# Altium footprint library Mach dieu khien tu xa.PcbLib: 33 footprints (part 1 of 3)
Each footprint in its own frame and in the unit in brackets; x right, y up, seen from the top. Pads: shape width x height; smd on the part's side, far side on the other; paste and mask are expansions set on the pad; w line width, h text height; cw(c..) or ccw(c..) is an arc to the next point about the centre after c.
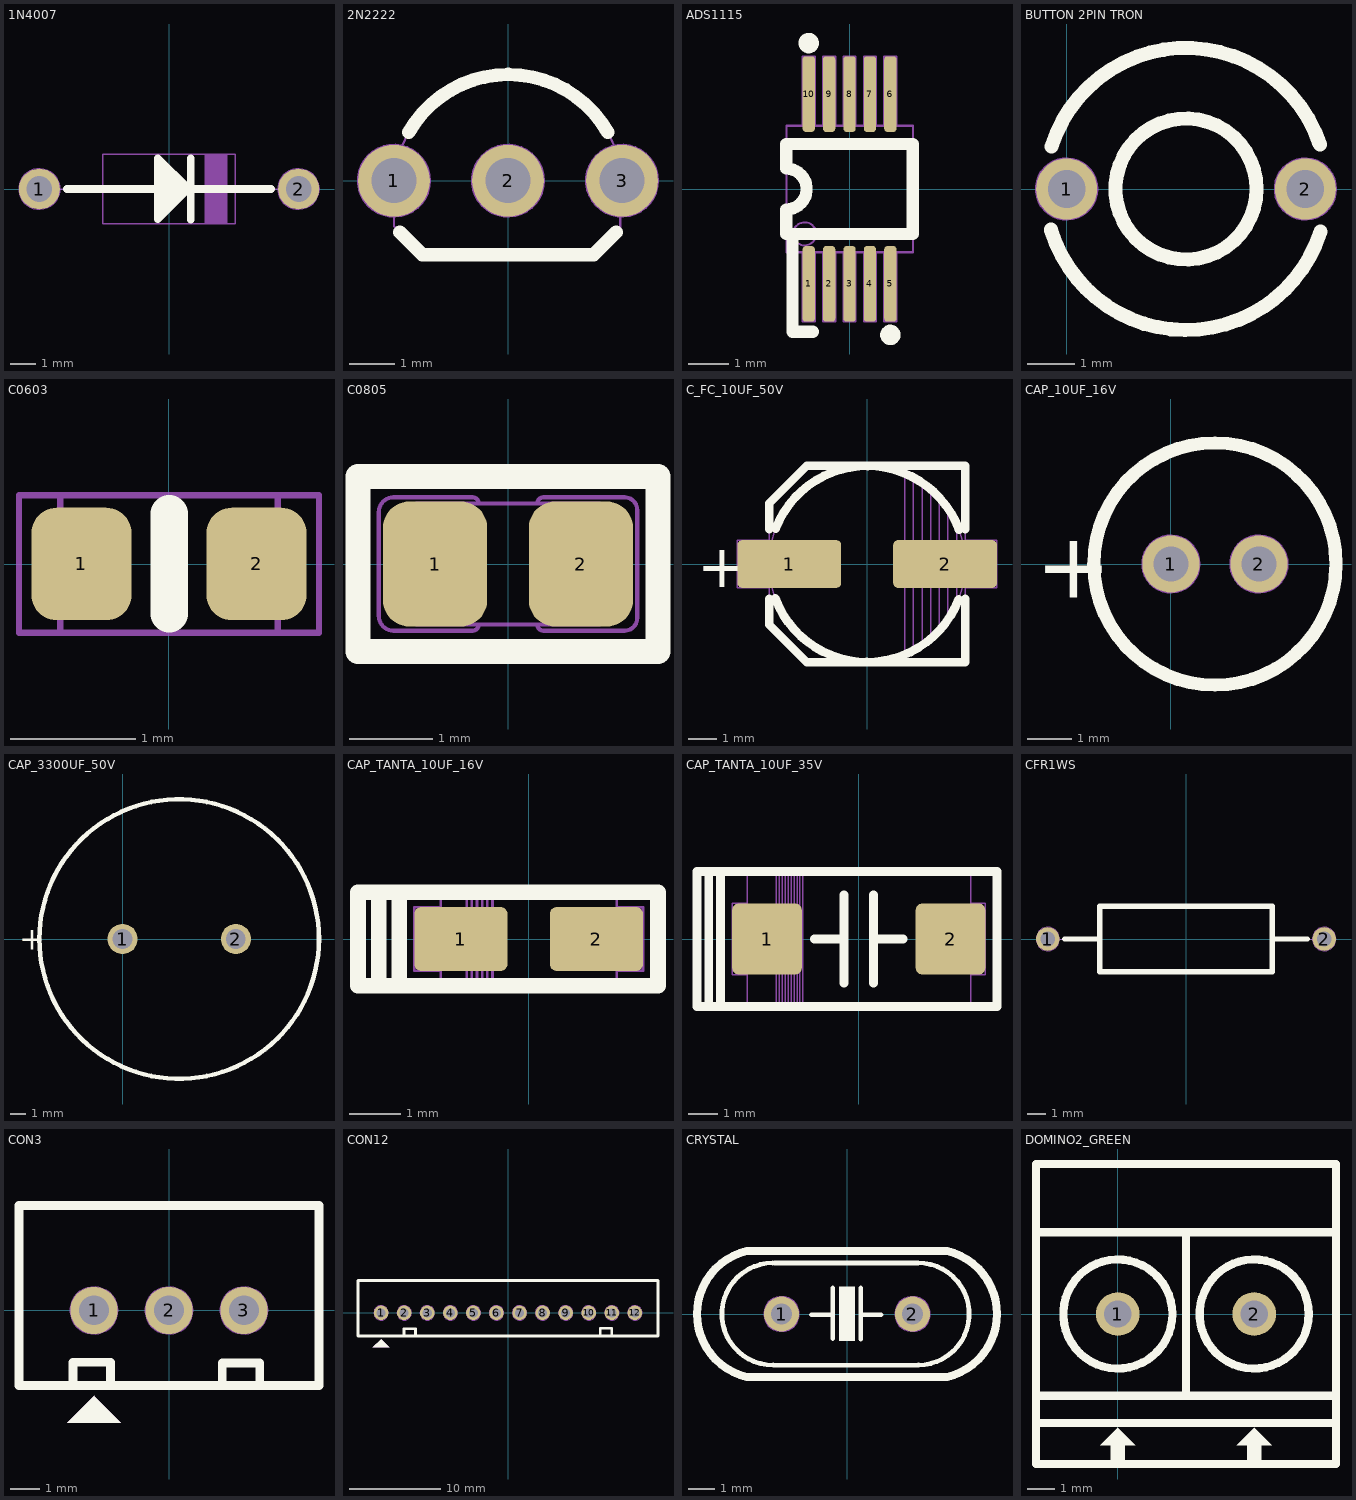
[diagram p0: the footprints below, top view; thin cyan lines are the x and y axes]

## 1N4007 [mm] "DIODE_DIP"
height 2.72
pads (2):
  round 1.6 hole 1 mask+0.1: 1(-5.08,0) 2(5.08,0)
Top Overlay:
  region: -0.44,1.21 -0.44,-1.18 -0.41,-1.18 0.77,0
  lines w0.3: -4,0 4,0 ; 0.74,0 -0.44,-1.18 -0.44,1.21 0.77,0 0.84,0 ; 0.85,-1.2 0.85,1.21
Mechanical 1:
  circle w0.05: c-5.08,0 r0.8
  circle w0.05: c5.08,0 r0.8
  rectangle: 1.397,-1.36 2.286,1.36
  lines w0.05: -4.28,0 -2.605,0 ; 2.605,0 4.27,0 ; -2.605,-1.36 2.605,-1.36 2.605,1.36 -2.605,1.36 -2.605,-1.36
3D body "User Library-1n4007-1.step": height 2.75, standoff -4, extent -5.8,-1.25 5.8,1.25

## 2N2222 [mm] "TO-92 Bent Lead, Flat Index; 3 In-Line, Axial Leads; Body Dia. 4.5mm; Leads 0.51 x 0.48 mm (max)"
height 6.5
pads (3):
  round 1.6 hole 1 mask+0.1: 1(-2.54,0) 2(0,0)
  round 1.6 hole 1: 3(2.54,0)
Top Overlay:
  lines w0.3: -2.413,-1.143 -1.905,-1.651 1.905,-1.651 2.413,-1.143 ; -2.212,1.074 cw(c0.006,-0.185) 2.221,1.079
Mechanical 1:
  circle w0.05: c-2.54,0 r0.8
  circle w0.05: c0,0 r0.8
  circle w0.05: c2.54,0 r0.8
  lines w0.05: -2.54,-0.8 -2.54,-1.016 -1.905,-1.651 1.905,-1.651 2.5,-1.056 2.5,-0.8 ; -2.351,0.789 cw(c0.006,-0.185) 2.364,0.785
  text "B" at -0.2,-0.4 h0.8
  text "E" at -2.8,-0.4 h0.8
  text "C" at 2.4,-0.4 h0.8
Mechanical 15:
  lines w0.1: -0.5,0 0.5,0 ; 0,-0.5 0,0.5
3D body "TO-92_Bent.STEP": height 10, standoff -3, extent -2.79,-1.59 2.79,2.613

## ADS1115 [mm] "MSOP-10, 16-Bit  Analog-to-Digital"
height 1
pads (10):
  rrect50% 0.3x1.85 smd mask+0.05: 1(-1,-2.325) 2(-0.5,-2.325) 3(0,-2.325) 4(0.5,-2.325) 5(1,-2.325) 6(1,2.325) 7(0.5,2.325) 8(0,2.325) 9(-0.5,2.325) 10(-1,2.325)
Top Overlay:
  circle w0.3: c1,-3.575 r0.1
  circle w0.3: c-1,3.575 r0.1
  lines w0.3: -1.4,-1.1 -1.4,-3.5 -0.9,-3.5 ; -1.55,-1.1 -1.55,-0.5 ccw(c-1.55,0) -1.55,0.5 -1.55,1.1 1.55,1.1 1.55,-1.1 -1.55,-1.1
Mechanical 1:
  circle w0.05: c-1.1,-1.1 r0.283
  lines w0.05: -1.55,-0.4 ccw(c-1.55,0) -1.55,0.4 ; -1.55,-1.55 -1.55,1.55 1.55,1.55 1.55,-1.55 -1.55,-1.55 ; -1.15,-3.25 -0.85,-3.25 -0.85,-1.55 -1.15,-1.55 -1.15,-3.25 ; -1.15,1.55 -1.15,3.25 -0.85,3.25 -0.85,1.55 -1.15,1.55 ; -0.65,-3.25 -0.65,-1.55 -0.35,-1.55 -0.35,-3.25 -0.65,-3.25 ; -0.65,1.55 -0.65,3.25 -0.35,3.25 -0.35,1.55 -0.65,1.55 ; -0.15,-3.25 -0.15,-1.55 0.15,-1.55 0.15,-3.25 -0.15,-3.25 ; -0.15,1.55 -0.15,3.25 0.15,3.25 0.15,1.55 -0.15,1.55 ; 0.35,-3.25 0.35,-1.55 0.65,-1.55 0.65,-3.25 0.35,-3.25 ; 0.35,1.55 0.35,3.25 0.65,3.25 0.65,1.55 0.35,1.55 ; 0.85,-3.25 0.85,-1.55 1.15,-1.55 1.15,-3.25 0.85,-3.25 ; 0.85,1.55 0.85,3.25 1.15,3.25 1.15,1.55 0.85,1.55
  text "10" at -1.4,0.6 h0.8
  text "6" at 0.8,0.6 h0.8
  text "5" at 0.8,-1.4 h0.8
3D body "User Library-msop-10.step": height 1.15, standoff 0, extent -1.5,-2.45 1.5,2.45

## BUTTON 2PIN TRON [mm] "PIN TO PIN 5.08, W=6MM"
height 5
pads (2):
  round 1.3 hole 0.8: 1(0,0) 2(5.08,0)
Top Overlay:
  circle w0.3: c2.54,0 r1.5
  lines w0.3: -0.333,-0.862 ccw(c2.54,0) 5.399,-0.91 ; -0.321,0.903 cw(c2.54,0) 5.386,0.949
Mechanical 1:
  circle w0.05: c2.54,0 r1.5
  circle w0.05: c5.08,0 r0.65
  circle w0.05: c0,0 r0.65
  circle w0.05: c2.54,0 r1.5
  lines w0.05: -0.333,-0.862 ccw(c2.54,0) 5.399,-0.91 ; -0.321,0.903 cw(c2.54,0) 5.386,0.949

## C0603 [mm] "Chip Capacitor, Body 1.6x0.8mm, 1608"
height 0.85
pads (2):
  rrect50% 0.8x0.9 smd: 1(-0.7,0) 2(0.7,0)
Top Overlay:
  lines w0.3: 0,-0.4 0,0.4
Mechanical 1:
  lines w0.05: -0.87,-0.55 -0.87,0.54 ; 0.87,-0.55 0.87,0.54 ; -1.2,-0.55 1.2,-0.55 1.2,0.55 -1.2,0.55 -1.2,-0.55
3D body "Cap 0603.STEP": height 0.6, standoff 0, extent -0.8,-0.4 0.8,0.4

## C0805 [mm] "Chip Capacitor, 2-Leads, Body 2.0x1.3mm, IPC Medium Density"
height 1.45
pads (2):
  rrect50% 1.25x1.5 smd: 1(-0.875,0) 2(0.875,0)
Top Overlay:
  lines w0.3: -1.8,-1.05 -1.8,1.05 1.8,1.05 1.8,-1.05 -1.8,-1.05
Mechanical 1:
  lines w0.05: -0.35,-0.725 cw(c-0.425,-0.725) -0.425,-0.8 -1.375,-0.8 cw(c-1.375,-0.625) -1.55,-0.625 -1.55,0.625 cw(c-1.375,0.625) -1.375,0.8 -0.425,0.8 cw(c-0.425,0.725) -0.35,0.725 ; 0.35,-0.725 ccw(c0.425,-0.725) 0.425,-0.8 1.4,-0.8 ccw(c1.4,-0.65) 1.55,-0.65 1.55,0.65 ccw(c1.4,0.65) 1.4,0.8 0.425,0.8 ccw(c0.425,0.725) 0.35,0.725 ; -1.1,-0.725 -1.1,0.725 ; -1.1,-0.725 1.1,-0.725 1.1,0.725 -1.1,0.725 ; -1.1,-0.725 -1.1,0.725
Mechanical 15:
  lines w0.1: -1.775,-1 1.775,-1 1.775,1 -1.775,1 -1.775,-1
3D body "User Library-cap_0805_lowprofile.step": height 0.95, standoff 0, extent -1,-0.6 1,0.6

## C_FC_10UF_50V [mm] "ALUMINUM CAPACITOR 6.8x6.8x5.5mm"
height 5.5
pads (2):
  rrect20% 3.6x1.65 smd mask+0.1: 1(-2.7,0) 2(2.7,0)
Top Overlay:
  lines w0.3: -3.4,-1.2 -3.4,-2.1 -2.1,-3.4 3.4,-3.4 3.4,-1.2 ; -3.4,1.2 -3.4,2.1 -2.1,3.4 3.4,3.4 3.4,1.2 ; -3.184,-1.194 ccw(c0,0) 3.171,-1.227 ; -3.171,1.227 cw(c0,0) 3.184,1.194
  text "+" at -5.9,-0.8 h1.5
Mechanical 1:
  circle w0.05: c0,0 r3.4
  circle w0.05: c-2.54,0 r0.671
  lines w0.05: -3.4,-0.825 -4.5,-0.825 -4.5,0.825 -3.4,0.825 ; 1.3,-3.14 1.3,3.13 ; 1.6,-3 1.6,3 ; 1.9,-2.81 1.9,2.82 ; 2.2,-2.58 2.2,2.59 ; 2.5,-2.29 2.5,2.3 ; 2.8,-1.92 2.8,1.91 ; 3.1,-1.38 3.1,1.39 ; 3.4,-0.825 4.5,-0.825 4.5,0.825 3.4,0.825 ; 3.4,-3.4 3.4,3.4 ; 3.4,-3.4 3.4,3.4 ; 3.4,-3.4 -2.1,-3.4 -3.4,-2.1 -3.4,2.1 -2.1,3.4 3.4,3.4
  text "+" at -3.2,-1 h2
3D body "User Library-E-cap_H.step": height 7.7, standoff 0, extent -3.65,-3.3 3.65,3.3

## CAP_10UF_16V [mm] "Capacitor, Electrolytic, Radial; Body 5 x 11 mm (Dia.xH typ); Pin Spacing 2 mm (typ)"
height 12
pads (2):
  round 1.3 hole 0.8: 1(0,0) 2(2,0)
Top Overlay:
  circle w0.3: c1,0 r2.75
  text "+" at -3.064,-0.762 h1.5
Mechanical 1:
  circle w0.05: c1,0 r2.75
  circle w0.05: c2,0 r0.65
  circle w0.05: c0,0 r0.65
  text "2" at 1.7,-0.5 h1
  text "1" at -0.2,-0.5 h1
  text "+" at -1.5,-0.5 h1
3D body "Cap Polar 5x11.STEP": height 11.53, standoff -3.27, extent -1.525,-2.525 3.525,2.525

## CAP_3300UF_50V [mm] "Capacitor, Electrolytic, Radial; Body 18 x 35.5 mm (Dia.xH typ); Pin Spacing 7.5 mm (typ)"
height 37.5
pads (2):
  round 2 hole 1.3: 1(0,0) 2(7.5,0)
Top Overlay:
  circle w0.3: c3.75,0 r9.25
  text "+" at -6.85,-0.7 h1.5
Mechanical 1:
  circle w0.05: c7.5,0 r0.8
  circle w0.05: c0,0 r0.8
  circle w0.05: c3.75,0 r9.25
  text "+" at -3.75,-0.7 h1.5
  text "1" at -0.2,-0.6 h1.2
  text "2" at 7.2,-0.6 h1.2

## CAP_TANTA_10UF_16V [mm] "CAP TANTALUM 10UF 16V 10% C1206(3216), Body 3.2x1.6mm"
height 1.8
pads (2):
  rrect20% 1.8x1.23 smd: 1(-1.31,0) 2(1.31,0)
Top Overlay:
  lines w0.3: -2.9,-0.9 -2.9,0.9 ; -2.5,-0.9 -3.3,-0.9 -3.3,0.9 -2.5,0.9 ; -2.5,-0.9 -2.5,0.9 ; -2.5,-0.9 2.5,-0.9 2.5,0.9 -2.5,0.9 ; -2.5,-0.9 -2.5,0.9
Mechanical 1:
  lines w0.05: -1.7,-0.615 -2.21,-0.615 -2.21,0.615 -1.7,0.615 ; -1.2,-0.9 -1.2,0.9 ; -1.1,-0.9 -1.1,0.9 ; -1,-0.9 -1,0.9 ; -0.9,-0.9 -0.9,0.9 ; -0.8,-0.9 -0.8,0.9 ; -0.7,-0.9 -0.7,0.9 ; 1.7,-0.615 2.21,-0.615 2.21,0.615 1.7,0.615 ; -1.7,-0.9 1.7,-0.9 1.7,0.9 -1.7,0.9 -1.7,-0.9
3D body "User Library-CAPC3216X10.step": height 1, standoff 0, extent -1.6,-0.8 1.6,0.8

## CAP_TANTA_10UF_35V [mm] "CAP TANTALUM 10UF 35V 10% C2917(7343), Body 7.3x4.3mm"
height 3.1
pads (2):
  rrect20% 2.37x2.43 smd: 1(-3.12,0) 2(3.12,0)
Top Overlay:
  lines w0.3: -5.1,-2.3 -5.1,2.3 ; -1.5,0 -0.5,0 ; -0.5,-1.5 -0.5,1.5 ; 0.5,-1.5 0.5,1.5 ; 0.5,0 1.5,0 ; -4.7,-2.3 4.7,-2.3 4.7,2.3 -4.7,2.3 ; -4.7,-2.3 -4.7,2.3 ; -4.7,-2.3 -5.5,-2.3 -5.5,2.3 -4.7,2.3
Mechanical 1:
  lines w0.05: -3.8,-1.215 -4.305,-1.215 -4.305,1.215 -3.8,1.215 ; -2.8,-2.3 -2.8,2.3 ; -2.7,-2.3 -2.7,2.3 ; -2.6,-2.3 -2.6,2.3 ; -2.5,-2.3 -2.5,2.3 ; -2.4,-2.3 -2.4,2.3 ; -2.3,-2.3 -2.3,2.3 ; -2.2,-2.3 -2.2,2.3 ; -2.1,-2.3 -2.1,2.3 ; -2,-2.3 -2,2.3 ; -1.9,-2.3 -1.9,2.3 ; 3.8,-1.215 4.305,-1.215 4.305,1.215 3.8,1.215 ; -3.8,-2.3 3.8,-2.3 3.8,2.3 -3.8,2.3 -3.8,-2.3
3D body "User Library-CAP_TANT_7343-31.step": height 3.1, standoff 0, extent -3.8,-2.3 3.8,2.3

## CFR1WS [mm] "RESISTOR_1W"
height 3.6
pads (2):
  round 1.3 hole 0.8: 1(-7.62,0) 2(7.62,0)
Top Overlay:
  lines w0.3: -6.68,0 -4.75,0 ; 4.75,0 6.7,0 ; -4.75,-1.8 4.75,-1.8 4.75,1.8 -4.75,1.8 -4.75,-1.8
Mechanical 1:
  circle w0.05: c-7.62,0 r0.65
  circle w0.05: c7.62,0 r0.65
  lines w0.05: -6.97,0 -4.75,0 ; 4.75,0 6.96,0 ; -4.75,-1.8 4.75,-1.8 4.75,1.8 -4.75,1.8 -4.75,-1.8

## CON3 [mm] "CON 3"
height 5.08
pads (3):
  round 1.6 hole 1 mask+0.1: 1(-2.54,0) 2(0,0) 3(2.54,0)
Top Overlay:
  region: -3.442,-3.797 -1.638,-3.797 -2.527,-2.908 -2.527,-2.883
  lines w0.3: -3.251,-2.515 -3.251,-1.753 -1.981,-1.753 -1.981,-2.515 ; 1.803,-2.54 1.803,-1.778 3.073,-1.778 3.073,-2.54 ; -5.08,-2.54 5.08,-2.54 5.08,0 5.08,3.556 -5.08,3.556 -5.08,-2.54
Mechanical 1:
  circle w0.05: c-2.54,0 r0.8
  circle w0.05: c0,0 r0.8
  circle w0.05: c2.54,0 r0.8
  region: -3.442,-3.797 -1.638,-3.797 -2.527,-2.908 -2.527,-2.883
  lines w0.05: -3.251,-2.515 -3.251,-1.753 -1.981,-1.753 -1.981,-2.515 ; 1.803,-2.54 1.803,-1.778 3.073,-1.778 3.073,-2.54 ; -5.08,-2.54 -5.08,3.556 5.08,3.556 5.08,0 5.08,-2.54 -5.08,-2.54
  text "1" at -2.7,-0.5 h1
  text "3" at 2.2,-0.5 h1
3D body "User Library-PW10_3.step": height 7, standoff -3.3, extent -5,-2.286 5,3.414

## CON12 [mm] "CON12"
height 5.08
pads (12):
  round 1.6 hole 1 mask+0.1: 1(-13.97,0) 2(-11.43,0) 3(-8.89,0) 4(-6.35,0) 5(-3.81,0) 6(-1.27,0) 7(1.27,0) 8(3.81,0) 9(6.35,0) 10(8.89,0) 11(11.43,0) 12(13.97,0)
Top Overlay:
  region: -14.872,-3.797 -13.068,-3.797 -13.957,-2.908 -13.957,-2.883
  lines w0.3: -11.455,-2.515 -11.455,-1.753 -10.185,-1.753 -10.185,-2.515 ; 10.16,-2.464 10.16,-1.702 11.43,-1.702 11.43,-2.464 ; -16.51,-2.54 16.51,-2.54 16.51,0 16.51,3.556 -16.51,3.556 -16.51,-2.54
Mechanical 1:
  circle w0.05: c13.97,0 r0.8
  circle w0.05: c11.43,0 r0.8
  circle w0.05: c8.89,0 r0.8
  circle w0.05: c6.35,0 r0.8
  circle w0.05: c3.81,0 r0.8
  circle w0.05: c1.27,0 r0.8
  circle w0.05: c-1.27,0 r0.8
  circle w0.05: c-3.81,0 r0.8
  circle w0.05: c-6.35,0 r0.8
  circle w0.05: c-8.89,0 r0.8
  circle w0.05: c-11.43,0 r0.8
  circle w0.05: c-13.97,0 r0.8
  region: -14.872,-3.797 -13.068,-3.797 -13.957,-2.908 -13.957,-2.883
  lines w0.05: -11.455,-2.515 -11.455,-1.753 -10.185,-1.753 -10.185,-2.515 ; 10.16,-2.464 10.16,-1.702 11.43,-1.702 11.43,-2.464 ; -16.51,-2.54 16.51,-2.54 16.51,0 16.51,3.556 -16.51,3.556 -16.51,-2.54
  text "12" at 13.2,-0.5 h1
  text "1" at -14.1,-0.5 h1
3D body "User Library-PW10_12.step": height 7, standoff -3.3, extent -16.3,-2.286 16.3,3.414

## CRYSTAL [mm] "Quartz Crystal, Thru-Hole; 2 Leads; Body 11.35 x 4.65 x 13.46 mm (LxWxH max)"
height 3.5
pads (2):
  round 1.3 hole 0.8 mask+0.1: 1(-2.44,0) 2(2.44,0)
Top Overlay:
  region: 0.292,1.016 0.292,-0.991 -0.292,-0.991 -0.292,1.016
  lines w0.178: -2.769,1.905 ccw(c-2.756,0) -2.75,-1.905 ; -2.717,-1.905 2.617,-1.905 ; -2.692,1.905 2.642,1.905 ; -1.321,-0.025 -0.533,-0.025 ; -0.533,-0.914 -0.533,0.965 ; 0.508,-0.94 0.508,0.965 ; 0.508,-0.025 1.27,-0.025 ; 2.642,1.905 cw(c2.647,0) 2.66,-1.905
  lines w0.3: -3.733,-2.35 3.733,-2.35 ; -3.733,-2.348 cw(c-3.175,0) -3.733,2.348 ; -3.733,2.35 3.733,2.35 ; 3.733,-2.348 ccw(c3.175,0) 3.733,2.348
Mechanical 1:
  circle w0.05: c-2.44,0 r0.65
  circle w0.05: c2.44,0 r0.65
  lines w0.05: -3.733,-2.35 3.733,-2.35 ; -3.733,-2.348 cw(c-3.175,0) -3.733,2.348 ; -3.733,2.35 3.733,2.35 ; 3.733,-2.348 ccw(c3.175,0) 3.733,2.348
3D body "HC49S.STEP": height 3.6, standoff -3, extent -5.49,-2.245 5.49,2.246

## DOMINO2_GREEN [mm] "10A PIN TO PIN 5mm 11mmx11mm"
pads (2):
  round 1.6 hole 1 mask+0.1: 1(0,0) 2(5,0)
Top Overlay:
  circle w0.3: c0,0 r2
  circle w0.3: c5,0 r2
  region: 0,-4.171 -0.635,-4.806 -0.254,-4.806 -0.254,-5.441 0.254,-5.441 0.254,-4.806 0.635,-4.806
  region: 5,-4.171 4.365,-4.806 4.746,-4.806 4.746,-5.441 5.254,-5.441 5.254,-4.806 5.635,-4.806
  lines w0.3: -3,-4 8,-4 ; -3,-3 8,-3 ; -3,3 8,3 ; 2.5,-3 2.5,3 ; -3,-5.5 8,-5.5 8,5.5 -3,5.5 -3,-5.5
3D body "STB01.step": height 12.5, standoff -4.4, extent 1.94,-4.047 7.62,4.953
3D body "STB01.step": height 12.5, standoff -4.4, extent -3.14,-4.047 2.54,4.953